# Altium schematic symbol library diode_6.Schlib: 1 symbol
Pins are listed as number, name and electrical type; pins without a type are passive.

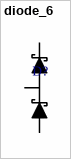
[diagram p0: symbol diode_6]

## diode_6
designator D?  (value not drawn)
Schottky Series Diodes
pins: 1, 2, 3